# EAGLE library part CON_PINHD-1X6 (library akita)
PIN HEADER
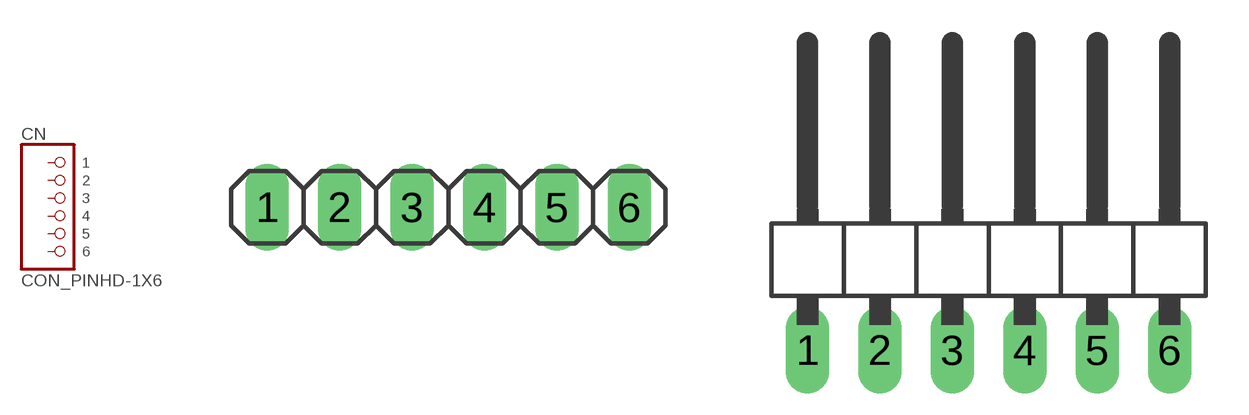
[diagram p10: symbol with the pads of 1X06; footprints 1X06, 1X06/90]

Designator prefix CN

## CON_PINHD-1X6  [1X06]
1  1  pas
2  2  pas
3  3  pas
4  4  pas
5  5  pas
6  6  pas

## CON_PINHD-1X6/90  [1X06/90]
Pads as for 1X06

## CON_PINHD-1X6R  [1X06R]
Pads as for 1X06

## CON_PINHD-1X6SMD  [1X06SMD]
P$1  1  pas
P$2  2  pas
P$3  3  pas
P$4  4  pas
P$5  5  pas
P$6  6  pas

## CON_PINHD-1X6RZ  [1X06RZ]
Pads as for 1X06

## CON_PINHD-1X6SMDT  [1X06SMD_THIN]
Pads as for 1X06SMD

## Footprint 1X06 (pad centres in mm)
PIN HEADER
drill 1.016 long: 1 -6.35,0; 2 -3.81,0; 3 -1.27,0; 4 1.27,0; 5 3.81,0; 6 6.35,0

## Footprint 1X06/90 (pad centres in mm)
PIN HEADER
drill 1.016 long: 1 -6.35,-3.81; 2 -3.81,-3.81; 3 -1.27,-3.81; 4 1.27,-3.81; 5 3.81,-3.81; 6 6.35,-3.81

## Footprint 1X06R (pad centres in mm)
drill 0.9 pad 1.651: 1 -6.35,0; 2 -3.81,0; 3 -1.27,0; 4 1.27,0; 5 3.81,0; 6 6.35,0

## Footprint 1X06SMD (pad centres in mm)
smd 1.524 x 1.524: P$1 -6.35,0; P$2 -3.81,0; P$3 -1.27,0; P$4 1.27,0; P$5 3.81,0; P$6 6.35,0

## Footprint 1X06RZ (pad centres in mm)
1x6, H-zigzag
drill 0.9 pad 1.651: 1 -6.55,0; 2 -3.61,0; 3 -1.47,0; 4 1.47,0; 5 3.61,0; 6 6.55,0

## Footprint 1X06SMD_THIN (pad centres in mm)
smd 1 x 3: P$1 -6.35,0; P$2 -3.81,0; P$3 -1.27,0; P$4 1.27,0; P$5 3.81,0; P$6 6.35,0